# EAGLE library part JP4Q (library .custom-jmp)
JUMPER
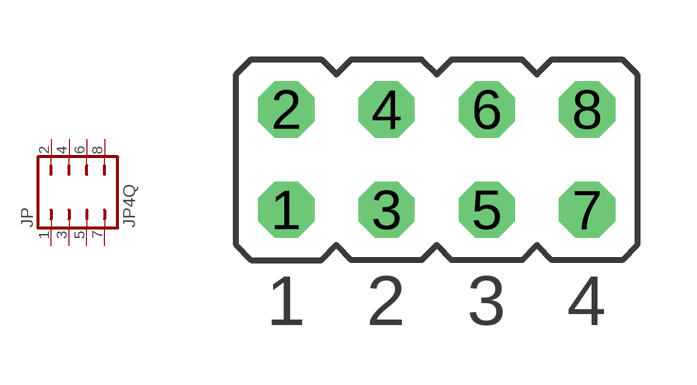
[diagram p14: symbol with the pads of JP4Q; footprint JP4Q]

Designator prefix JP

## JP4Q  [JP4Q]
1  1  pas
2  2  pas
3  3  pas
4  4  pas
5  5  pas
6  6  pas
7  7  pas
8  8  pas

## Footprint JP4Q (pad centres in mm)
JUMPER
drill 0.914 octagon: 1 -3.81,-1.27; 2 -3.81,1.27; 3 -1.27,-1.27; 4 -1.27,1.27; 5 1.27,-1.27; 6 1.27,1.27; 7 3.81,-1.27; 8 3.81,1.27